# Altium footprint library Microcntrollers.PcbLib: 6 footprints
Each footprint in its own frame and in the unit in brackets; x right, y up, seen from the top. Pads: shape width x height; smd on the part's side, far side on the other; paste and mask are expansions set on the pad; w line width, h text height; cw(c..) or ccw(c..) is an arc to the next point about the centre after c.
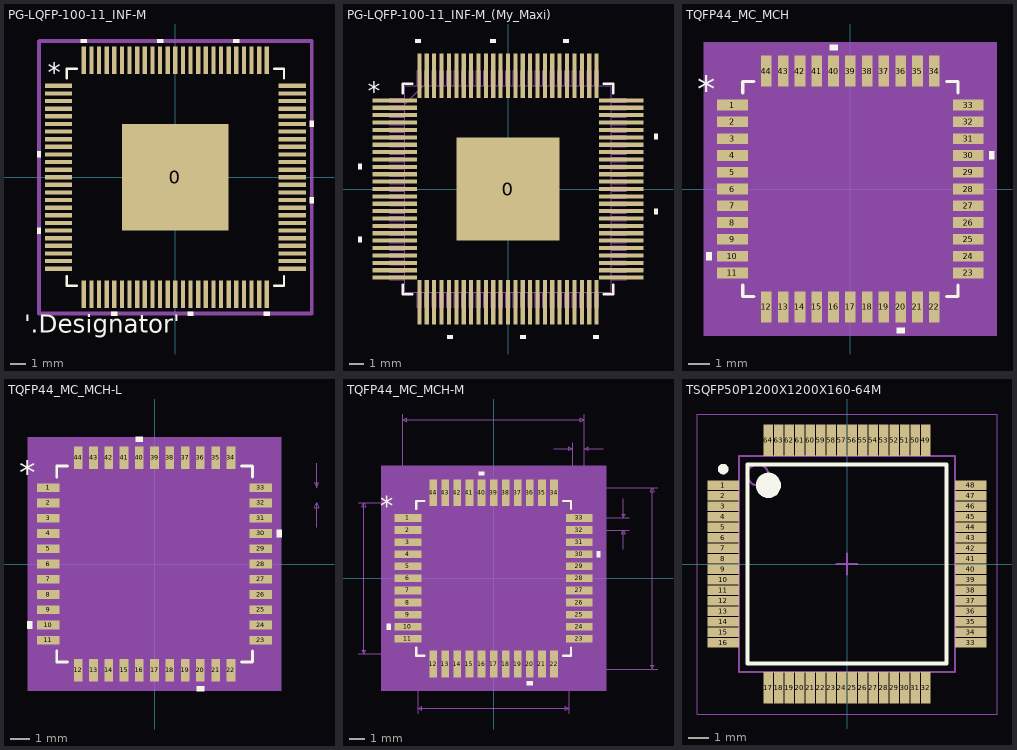
[diagram p0: the footprints below, top view; thin cyan lines are the x and y axes]

## PG-LQFP-100-11_INF-M [mil]
pads (101):
  rect 275.59x275.59 smd: 0(0,0)
  rect 70x11 smd paste+0 mask+0: 1(-302,236.22) 2(-302,216.54) 3(-302,196.85) 4(-302,177.17) 5(-302,157.48) 6(-302,137.8) 7(-302,118.11) 8(-302,98.43) 9(-302,78.74) 10(-302,59.06) 11(-302,39.37) 12(-302,19.69) 13(-302,0) 14(-302,-19.68) 15(-302,-39.37) 16(-302,-59.06) 17(-302,-78.74) 18(-302,-98.43) 19(-302,-118.11) 20(-302,-137.8) 21(-302,-157.48) 22(-302,-177.17) 23(-302,-196.85) 24(-302,-216.54) 25(-302,-236.22) 51(302,-236.22) 52(302,-216.54) 53(302,-196.85) 54(302,-177.17) 55(302,-157.48) 56(302,-137.8) 57(302,-118.11) 58(302,-98.43) 59(302,-78.74) 60(302,-59.06) 61(302,-39.37) 62(302,-19.68) 63(302,0) 64(302,19.68) 65(302,39.37) 66(302,59.06) 67(302,78.74) 68(302,98.43) 69(302,118.11) 70(302,137.8) 71(302,157.48) 72(302,177.17) 73(302,196.85) 74(302,216.54) 75(302,236.22)
  rect 11x70 smd paste+0 mask+0: 26(-236.22,-302) 27(-216.54,-302) 28(-196.85,-302) 29(-177.17,-302) 30(-157.48,-302) 31(-137.8,-302) 32(-118.11,-302) 33(-98.43,-302) 34(-78.74,-302) 35(-59.06,-302) 36(-39.37,-302) 37(-19.68,-302) 38(0,-302) 39(19.68,-302) 40(39.37,-302) 41(59.06,-302) 42(78.74,-302) 43(98.43,-302) 44(118.11,-302) 45(137.8,-302) 46(157.48,-302) 47(177.17,-302) 48(196.85,-302) 49(216.54,-302) 50(236.22,-302) 76(236.22,302) 77(216.54,302) 78(196.85,302) 79(177.17,302) 80(157.48,302) 81(137.8,302) 82(118.11,302) 83(98.43,302) 84(78.74,302) 85(59.06,302) 86(39.37,302) 87(19.68,302) 88(0,302) 89(-19.68,302) 90(-39.37,302) 91(-59.06,302) 92(-78.74,302) 93(-98.43,302) 94(-118.11,302) 95(-137.8,302) 96(-157.48,302) 97(-177.17,302) 98(-196.85,302) 99(-216.54,302) 100(-236.22,302)
Top Overlay:
  region: -228.72,347 -243.72,347 -243.72,357 -228.72,357
  region: -31.87,347 -46.87,347 -46.87,357 -31.87,357
  region: 164.98,347 149.98,347 149.98,357 164.98,357
  region: 347,145.3 357,145.3 357,130.3 347,130.3
  region: 347,-51.56 357,-51.56 357,-66.56 347,-66.56
  region: 243.72,-347 228.72,-347 228.72,-357 243.72,-357
  region: 46.87,-347 31.87,-347 31.87,-357 46.87,-357
  region: -149.98,-347 -164.98,-347 -164.98,-357 -149.98,-357
  region: -347,-130.3 -357,-130.3 -357,-145.3 -347,-145.3
  region: -347,66.56 -357,66.56 -357,51.56 -347,51.56
  lines w6: -280.5,-254.82 -280.5,-280.5 -254.82,-280.5 ; -280.5,254.82 -280.5,280.5 -254.82,280.5 ; 254.82,-280.5 280.5,-280.5 280.5,-254.82 ; 254.82,280.5 280.5,280.5 280.5,254.82
  text "'.Designator'" at -389.76,-417.68 h78.74
  text "*" at -330,245 h50
Top Component Outline:
  lines w10: -351.77,-351.97 -351.77,59.06 -351.77,350.2 -349.8,352.17 352.17,352.17 ; -351.18,-351.97 -157.48,-351.97 351.67,-351.97 351.87,-351.77 ; 352.17,-351.38 352.17,137.99 352.17,351.97
3D body "PG-LQFP-100-11_INF.step": height 63.11, standoff 0, extent -315,-314.99 315,315

## PG-LQFP-100-11_INF-M_(My_Maxi) [mil]
pads (101):
  rect 275.59x275.59 smd: 0(0,0)
  rect 118.11x11 smd paste+0 mask+0: 1(-302,236.22) 2(-302,216.54) 3(-302,196.85) 4(-302,177.17) 5(-302,157.48) 6(-302,137.8) 7(-302,118.11) 8(-302,98.43) 9(-302,78.74) 10(-302,59.06) 11(-302,39.37) 12(-302,19.69) 13(-302,0) 14(-302,-19.68) 15(-302,-39.37) 16(-302,-59.06) 17(-302,-78.74) 18(-302,-98.43) 19(-302,-118.11) 20(-302,-137.8) 21(-302,-157.48) 22(-302,-177.17) 23(-302,-196.85) 24(-302,-216.54) 25(-302,-236.22) 51(302,-236.22) 52(302,-216.54) 53(302,-196.85) 54(302,-177.17) 55(302,-157.48) 56(302,-137.8) 57(302,-118.11) 58(302,-98.43) 59(302,-78.74) 60(302,-59.06) 61(302,-39.37) 62(302,-19.68) 63(302,0) 64(302,19.68) 65(302,39.37) 66(302,59.06) 67(302,78.74) 68(302,98.43) 69(302,118.11) 70(302,137.8) 71(302,157.48) 72(302,177.17) 73(302,196.85) 74(302,216.54) 75(302,236.22)
  rect 11x118.11 smd paste+0 mask+0: 26(-236.22,-302) 27(-216.54,-302) 28(-196.85,-302) 29(-177.17,-302) 30(-157.48,-302) 31(-137.8,-302) 32(-118.11,-302) 33(-98.43,-302) 34(-78.74,-302) 35(-59.06,-302) 36(-39.37,-302) 37(-19.68,-302) 38(0,-302) 39(19.68,-302) 40(39.37,-302) 41(59.06,-302) 42(78.74,-302) 43(98.43,-302) 44(118.11,-302) 45(137.8,-302) 46(157.48,-302) 47(177.17,-302) 48(196.85,-302) 49(216.54,-302) 50(236.22,-302) 76(236.22,302) 77(216.54,302) 78(196.85,302) 79(177.17,302) 80(157.48,302) 81(137.8,302) 82(118.11,302) 83(98.43,302) 84(78.74,302) 85(59.06,302) 86(39.37,302) 87(19.68,302) 88(0,302) 89(-19.68,302) 90(-39.37,302) 91(-59.06,302) 92(-78.74,302) 93(-98.43,302) 94(-118.11,302) 95(-137.8,302) 96(-157.48,302) 97(-177.17,302) 98(-196.85,302) 99(-216.54,302) 100(-236.22,302)
Top Overlay:
  region: -390,67.5 -400,67.5 -400,52.5 -390,52.5
  region: -390,-127.5 -400,-127.5 -400,-142.5 -390,-142.5
  region: -147.5,-390 -162.5,-390 -162.5,-400 -147.5,-400
  region: 47.5,-390 32.5,-390 32.5,-400 47.5,-400
  region: 242.5,-390 227.5,-390 227.5,-400 242.5,-400
  region: 390,-52.5 400,-52.5 400,-67.5 390,-67.5
  region: 390,147.5 400,147.5 400,132.5 390,132.5
  region: 162.5,390 147.5,390 147.5,400 162.5,400
  region: -32.5,390 -47.5,390 -47.5,400 -32.5,400
  region: -232.5,390 -247.5,390 -247.5,400 -232.5,400
  lines w6: -280.5,-254.82 -280.5,-280.5 -254.82,-280.5 ; -280.5,254.82 -280.5,280.5 -254.82,280.5 ; 254.82,-280.5 280.5,-280.5 280.5,-254.82 ; 254.82,280.5 280.5,280.5 280.5,254.82
  text "*" at -374.5,236.06 h50
Mechanical 13:
  drawing of 405 lines, arcs and shapes, not listed
  text "*" at -273,221.06 h50
3D body: height 10, standoff 0, extent 0,0 10,10
3D body "PG-LQFP-100-11_INF.step": height 63.11, standoff 0, extent -315,-310 315,320

## TQFP44_MC_MCH [mil]
pads (44):
  rect 58x20 smd paste+0 mask+0: 1(-221.22,157.48) 2(-221.22,125.98) 3(-221.22,94.49) 4(-221.22,62.99) 5(-221.22,31.5) 6(-221.22,0) 7(-221.22,-31.5) 8(-221.22,-62.99) 9(-221.22,-94.49) 10(-221.22,-125.98) 11(-221.22,-157.48) 23(221.22,-157.48) 24(221.22,-125.98) 25(221.22,-94.49) 26(221.22,-62.99) 27(221.22,-31.5) 28(221.22,0) 29(221.22,31.5) 30(221.22,62.99) 31(221.22,94.49) 32(221.22,125.98) 33(221.22,157.48)
  rect 20x58 smd paste+0 mask+0: 12(-157.48,-221.22) 13(-125.98,-221.22) 14(-94.49,-221.22) 15(-62.99,-221.22) 16(-31.5,-221.22) 17(0,-221.22) 18(31.5,-221.22) 19(62.99,-221.22) 20(94.49,-221.22) 21(125.98,-221.22) 22(157.48,-221.22) 34(157.48,221.22) 35(125.98,221.22) 36(94.49,221.22) 37(62.99,221.22) 38(31.5,221.22) 39(0,221.22) 40(-31.5,221.22) 41(-62.99,221.22) 42(-94.49,221.22) 43(-125.98,221.22) 44(-157.48,221.22)
Top Overlay:
  region: -24,260.22 -39,260.22 -39,270.22 -24,270.22
  region: 260.22,70.49 270.22,70.49 270.22,55.49 260.22,55.49
  region: 101.99,-260.22 86.99,-260.22 86.99,-270.22 101.99,-270.22
  region: -260.22,-118.48 -270.22,-118.48 -270.22,-133.48 -260.22,-133.48
  lines w6: -201.85,-180.58 -201.85,-201.85 -180.58,-201.85 ; -201.85,180.58 -201.85,201.85 -180.58,201.85 ; 180.58,-201.85 201.85,-201.85 201.85,-180.58 ; 180.58,201.85 201.85,201.85 201.85,180.58
  text "*" at -287.72,163.23 h50
Mechanical 5:
  region: 275.22,-275.22 -275.22,-275.22 -275.22,275.22 275.22,275.22
Mechanical 13:
  drawing of 181 lines, arcs and shapes, not listed
  text "*" at -194.35,148.23 h50
Mechanical 15:
  region: -177.48,-206.85 -206.85,-206.85 -206.85,-177.48 -260.22,-177.48 -260.22,177.48 -206.85,177.48 -206.85,206.85 -177.48,206.85 -177.48,260.22 177.48,260.22 177.48,206.85 206.85,206.85 206.85,177.48 260.22,177.48 260.22,-177.48 206.85,-177.48 206.85,-206.85 177.48,-206.85 177.48,-260.22 -177.48,-260.22
  lines w6: 260.22,-177.48 206.85,-177.48 206.85,-206.85 177.48,-206.85 177.48,-260.22 -177.48,-260.22 -177.48,-206.85 -206.85,-206.85 -206.85,-177.48 -260.22,-177.48 -260.22,177.48 -206.85,177.48 -206.85,206.85 -177.48,206.85 -177.48,260.22 177.48,260.22 177.48,206.85 206.85,206.85 206.85,177.48 260.22,177.48
3D body "TQFP44_MC_MCH.step": height 47.36, standoff 0, extent -236.22,-236.22 236.22,236.22
3D body: height 10, standoff 0, extent 0,0 10,10
3D body "TQFP44_MC_MCH.step": height 47.36, standoff 0, extent -236.22,-236.22 236.22,236.22

## TQFP44_MC_MCH-L [mil]
pads (44):
  rect 46x18 smd paste+0 mask+0: 1(-219.22,157.48) 2(-219.22,125.98) 3(-219.22,94.49) 4(-219.22,62.99) 5(-219.22,31.5) 6(-219.22,0) 7(-219.22,-31.5) 8(-219.22,-62.99) 9(-219.22,-94.49) 10(-219.22,-125.98) 11(-219.22,-157.48) 23(219.22,-157.48) 24(219.22,-125.98) 25(219.22,-94.49) 26(219.22,-62.99) 27(219.22,-31.5) 28(219.22,0) 29(219.22,31.5) 30(219.22,62.99) 31(219.22,94.49) 32(219.22,125.98) 33(219.22,157.48)
  rect 18x46 smd paste+0 mask+0: 12(-157.48,-219.22) 13(-125.98,-219.22) 14(-94.49,-219.22) 15(-62.99,-219.22) 16(-31.5,-219.22) 17(0,-219.22) 18(31.5,-219.22) 19(62.99,-219.22) 20(94.49,-219.22) 21(125.98,-219.22) 22(157.48,-219.22) 34(157.48,219.22) 35(125.98,219.22) 36(94.49,219.22) 37(62.99,219.22) 38(31.5,219.22) 39(0,219.22) 40(-31.5,219.22) 41(-62.99,219.22) 42(-94.49,219.22) 43(-125.98,219.22) 44(-157.48,219.22)
Top Overlay:
  region: -24,252.22 -39,252.22 -39,262.22 -24,262.22
  region: 252.22,70.49 262.22,70.49 262.22,55.49 252.22,55.49
  region: 101.99,-252.22 86.99,-252.22 86.99,-262.22 101.99,-262.22
  region: -252.22,-118.48 -262.22,-118.48 -262.22,-133.48 -252.22,-133.48
  lines w6: -201.85,-179.58 -201.85,-201.85 -179.58,-201.85 ; -201.85,179.58 -201.85,201.85 -179.58,201.85 ; 179.58,-201.85 201.85,-201.85 201.85,-179.58 ; 179.58,201.85 201.85,201.85 201.85,179.58
  text "*" at -279.72,163.23 h50
Mechanical 5:
  region: 261.22,-261.22 -261.22,-261.22 -261.22,261.22 261.22,261.22
Mechanical 7:
  lines w1: 334.22,75.98 334.22,125.98 ; 334.22,207.48 334.22,157.48 ; 334.22,125.98 339.22,115.98 329.22,115.98 334.22,125.98 ; 334.22,157.48 339.22,167.48 329.22,167.48 334.22,157.48
Mechanical 13:
  drawing of 181 lines, arcs and shapes, not listed
  text "*" at -194.35,148.23 h50
Mechanical 15:
  region: -170.48,-200.85 -200.85,-200.85 -200.85,-170.48 -246.22,-170.48 -246.22,170.48 -200.85,170.48 -200.85,200.85 -170.48,200.85 -170.48,246.22 170.48,246.22 170.48,200.85 200.85,200.85 200.85,170.48 246.22,170.48 246.22,-170.48 200.85,-170.48 200.85,-200.85 170.48,-200.85 170.48,-246.22 -170.48,-246.22
  lines w6: -246.22,-170.48 -246.22,170.48 -200.85,170.48 -200.85,200.85 -170.48,200.85 -170.48,246.22 170.48,246.22 170.48,200.85 200.85,200.85 200.85,170.48 246.22,170.48 246.22,-170.48 200.85,-170.48 200.85,-200.85 170.48,-200.85 170.48,-246.22 -170.48,-246.22 -170.48,-200.85 -200.85,-200.85 -200.85,-170.48 -246.22,-170.48
3D body: height 10, standoff 0, extent 0,0 10,10
3D body "TQFP44_MC_MCH.step": height 47.36, standoff 0, extent -236.22,-236.22 236.22,236.22

## TQFP44_MC_MCH-M [mil]
pads (44):
  rect 70x20 smd paste+0 mask+0: 1(-223.22,157.48) 2(-223.22,125.98) 3(-223.22,94.49) 4(-223.22,62.99) 5(-223.22,31.5) 6(-223.22,0) 7(-223.22,-31.5) 8(-223.22,-62.99) 9(-223.22,-94.49) 10(-223.22,-125.98) 11(-223.22,-157.48) 23(223.22,-157.48) 24(223.22,-125.98) 25(223.22,-94.49) 26(223.22,-62.99) 27(223.22,-31.5) 28(223.22,0) 29(223.22,31.5) 30(223.22,62.99) 31(223.22,94.49) 32(223.22,125.98) 33(223.22,157.48)
  rect 20x70 smd paste+0 mask+0: 12(-157.48,-223.22) 13(-125.98,-223.22) 14(-94.49,-223.22) 15(-62.99,-223.22) 16(-31.5,-223.22) 17(0,-223.22) 18(31.5,-223.22) 19(62.99,-223.22) 20(94.49,-223.22) 21(125.98,-223.22) 22(157.48,-223.22) 34(157.48,223.22) 35(125.98,223.22) 36(94.49,223.22) 37(62.99,223.22) 38(31.5,223.22) 39(0,223.22) 40(-31.5,223.22) 41(-62.99,223.22) 42(-94.49,223.22) 43(-125.98,223.22) 44(-157.48,223.22)
Top Overlay:
  region: -24,268.22 -39,268.22 -39,278.22 -24,278.22
  region: 268.22,70.49 278.22,70.49 278.22,55.49 268.22,55.49
  region: 101.99,-268.22 86.99,-268.22 86.99,-278.22 101.99,-278.22
  region: -268.22,-118.48 -278.22,-118.48 -278.22,-133.48 -268.22,-133.48
  lines w6: -201.85,-180.58 -201.85,-201.85 -180.58,-201.85 ; -201.85,180.58 -201.85,201.85 -180.58,201.85 ; 180.58,-201.85 201.85,-201.85 201.85,-180.58 ; 180.58,201.85 201.85,201.85 201.85,180.58
  text "*" at -295.72,163.23 h50
Mechanical 5:
  region: 293.22,-293.22 -293.22,-293.22 -293.22,293.22 293.22,293.22
Mechanical 7:
  lines w1: -353.22,-196.85 -157.48,-196.85 ; -353.22,196.85 -157.48,196.85 ; -236.22,157.48 -236.22,428.22 ; -196.85,-353.22 -196.85,-157.48 ; 156.22,338.22 206.22,338.22 ; 157.48,-236.22 428.22,-236.22 ; 157.48,236.22 428.22,236.22 ; 196.85,-353.22 196.85,-157.48 ; 206.22,157.48 206.22,353.22 ; 223.22,125.98 353.22,125.98 ; 223.22,157.48 353.22,157.48 ; 236.22,353.22 236.22,157.48 236.22,428.22 ; 286.22,338.22 236.22,338.22 ; 338.22,75.98 338.22,125.98 ; 338.22,207.48 338.22,157.48 ; -338.22,-196.85 -333.22,-186.85 -343.22,-186.85 -338.22,-196.85 ; -338.22,-196.85 -338.22,196.85 ; -338.22,196.85 -333.22,186.85 -343.22,186.85 -338.22,196.85 ; -236.22,413.22 -226.22,408.22 -226.22,418.22 -236.22,413.22 ; -236.22,413.22 236.22,413.22 ; -196.85,-338.22 -186.85,-343.22 -186.85,-333.22 -196.85,-338.22 ; -196.85,-338.22 196.85,-338.22 ; 196.85,-338.22 186.85,-343.22 186.85,-333.22 196.85,-338.22 ; 206.22,338.22 196.22,333.22 196.22,343.22 206.22,338.22 ; 236.22,338.22 246.22,333.22 246.22,343.22 236.22,338.22 ; 236.22,413.22 226.22,408.22 226.22,418.22 236.22,413.22 ; 338.22,125.98 343.22,115.98 333.22,115.98 338.22,125.98 ; 338.22,157.48 343.22,167.48 333.22,167.48 338.22,157.48 ; 413.22,-236.22 418.22,-226.22 408.22,-226.22 413.22,-236.22 ; 413.22,-236.22 413.22,236.22 ; 413.22,236.22 418.22,226.22 408.22,226.22 413.22,236.22
  text "0.472in/12mm" at 433.22,-12.5 h25
  text "0.394in/10mm" at -508.22,-12.5 h25
  text "0.394in/10mm" at -75,-383.22 h25
  text "0.472in/12mm" at -75,433.22 h25
  text "0.03in/0.762mm" at 133.72,358.22 h25
  text "0.031in/0.8mm" at 358.22,129.23 h25
  text "Alt 2 Padstyle: OX90Y60D30P" at -337.5,-788.22 h50
  text "Alt 1 Padstyle: OX60Y90D30P" at -337.5,-728.22 h50
  text "Default Vert Padstyle: RX20Y70D0T" at -412.5,-548.22 h50
  text "Default Horiz Padstyle: RX20Y70D0T" at -425,-488.22 h50
Mechanical 13:
  drawing of 181 lines, arcs and shapes, not listed
  text "*" at -194.35,148.23 h50
Mechanical 15:
  region: -187.48,-216.85 -216.85,-216.85 -216.85,-187.48 -278.22,-187.48 -278.22,187.48 -216.85,187.48 -216.85,216.85 -187.48,216.85 -187.48,278.22 187.48,278.22 187.48,216.85 216.85,216.85 216.85,187.48 278.22,187.48 278.22,-187.48 216.85,-187.48 216.85,-216.85 187.48,-216.85 187.48,-278.22 -187.48,-278.22
  lines w6: -278.22,-187.48 -278.22,187.48 -216.85,187.48 -216.85,216.85 -187.48,216.85 -187.48,278.22 187.48,278.22 187.48,216.85 216.85,216.85 216.85,187.48 278.22,187.48 278.22,-187.48 216.85,-187.48 216.85,-216.85 187.48,-216.85 187.48,-278.22 -187.48,-278.22 -187.48,-216.85 -216.85,-216.85 -216.85,-187.48 -278.22,-187.48
3D body "TQFP44_MC_MCH.step": height 47.36, standoff 0, extent -236.22,-236.22 236.22,236.22
3D body: height 10, standoff 0, extent 0,0 10,10

## TSQFP50P1200X1200X160-64M [mm] "TSQFP, 64-Leads, Body 10,30x10,30mm, Pitch 0,50mm, IPC Low Density"
height 1.6
pads (64):
  rect 1.5x0.45 smd: 1(-5.9,3.75) 2(-5.9,3.25) 3(-5.9,2.75) 4(-5.9,2.25) 5(-5.9,1.75) 6(-5.9,1.25) 7(-5.9,0.75) 8(-5.9,0.25) 9(-5.9,-0.25) 10(-5.9,-0.75) 11(-5.9,-1.25) 12(-5.9,-1.75) 13(-5.9,-2.25) 14(-5.9,-2.75) 15(-5.9,-3.25) 16(-5.9,-3.75) 33(5.9,-3.75) 34(5.9,-3.25) 35(5.9,-2.75) 36(5.9,-2.25) 37(5.9,-1.75) 38(5.9,-1.25) 39(5.9,-0.75) 40(5.9,-0.25) 41(5.9,0.25) 42(5.9,0.75) 43(5.9,1.25) 44(5.9,1.75) 45(5.9,2.25) 46(5.9,2.75) 47(5.9,3.25) 48(5.9,3.75)
  rect 0.45x1.5 smd: 17(-3.75,-5.9) 18(-3.25,-5.9) 19(-2.75,-5.9) 20(-2.25,-5.9) 21(-1.75,-5.9) 22(-1.25,-5.9) 23(-0.75,-5.9) 24(-0.25,-5.9) 25(0.25,-5.9) 26(0.75,-5.9) 27(1.25,-5.9) 28(1.75,-5.9) 29(2.25,-5.9) 30(2.75,-5.9) 31(3.25,-5.9) 32(3.75,-5.9) 49(3.75,5.9) 50(3.25,5.9) 51(2.75,5.9) 52(2.25,5.9) 53(1.75,5.9) 54(1.25,5.9) 55(0.75,5.9) 56(0.25,5.9) 57(-0.25,5.9) 58(-0.75,5.9) 59(-1.25,5.9) 60(-1.75,5.9) 61(-2.25,5.9) 62(-2.75,5.9) 63(-3.25,5.9) 64(-3.75,5.9)
Top Overlay:
  circle w0.6: c-3.75,3.75 r0.3
  circle w0.25: c-5.9,4.525 r0.125
  lines w0.2: -4.75,-4.75 4.75,-4.75 4.75,4.75 -4.75,4.75 -4.75,-4.75
Mechanical 13:
  circle w0.1: c-4.25,4.25 r0.5
  lines w0.1: -5.15,-5.15 5.15,-5.15 5.15,5.15 -5.15,5.15 -5.15,-5.15
Mechanical 15:
  lines w0.05: -7.15,-7.15 7.15,-7.15 7.15,7.15 -7.15,7.15 -7.15,-7.15
  lines w0.1: -0.5,0 0.5,0 ; 0,-0.5 0,0.5
3D body "LQFP-64-1.STEP": height 1.5, standoff 0, extent -6.04,-6.055 5.96,5.945